# EAGLE library part C501-LP (library micro-siemens)
MICROPROCESSOR/PERIPHERAL DEVICE
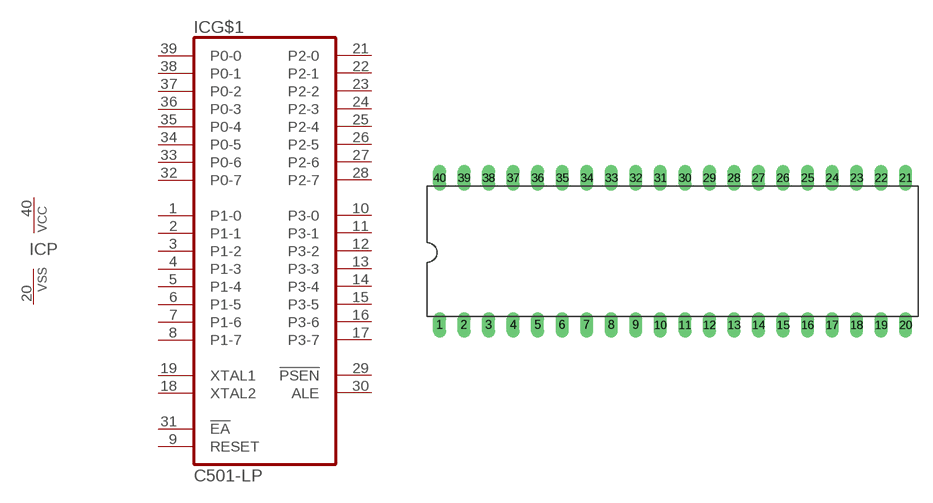
[diagram p70: symbol with the pads of DIL40; footprint DIL40]

Designator prefix IC; gates G$1=C501-LP P=VCCVSS

## C501-LP (OC_FARNELL: unknown; OC_NEWARK: unknown)  [DIL40]
1  G$1:P1-0
2  G$1:P1-1
3  G$1:P1-2
4  G$1:P1-3
5  G$1:P1-4
6  G$1:P1-5
7  G$1:P1-6
8  G$1:P1-7
9  G$1:RESET  in
10  G$1:P3-0
11  G$1:P3-1
12  G$1:P3-2
13  G$1:P3-3
14  G$1:P3-4
15  G$1:P3-5
16  G$1:P3-6
17  G$1:P3-7
18  G$1:XTAL2  pas
19  G$1:XTAL1  pas
20  P:VSS  pwr
21  G$1:P2-0
22  G$1:P2-1
23  G$1:P2-2
24  G$1:P2-3
25  G$1:P2-4
26  G$1:P2-5
27  G$1:P2-6
28  G$1:P2-7
29  G$1:!PSEN  out
30  G$1:ALE  out
31  G$1:!EA  in
32  G$1:P0-7
33  G$1:P0-6
34  G$1:P0-5
35  G$1:P0-4
36  G$1:P0-3
37  G$1:P0-2
38  G$1:P0-1
39  G$1:P0-0
40  P:VCC  pwr

## Footprint DIL40 (pad centres in mm)
Dual In Line Package
drill 0.813 long: 1 -24.13,-7.62; 2 -21.59,-7.62; 3 -19.05,-7.62; 4 -16.51,-7.62; 5 -13.97,-7.62; 6 -11.43,-7.62; 7 -8.89,-7.62; 8 -6.35,-7.62; 9 -3.81,-7.62; 10 -1.27,-7.62; 11 1.27,-7.62; 12 3.81,-7.62; 13 6.35,-7.62; 14 8.89,-7.62; 15 11.43,-7.62; 16 13.97,-7.62; 17 16.51,-7.62; 18 19.05,-7.62; 19 21.59,-7.62; 20 24.13,-7.62; 21 24.13,7.62; 22 21.59,7.62; 23 19.05,7.62; 24 16.51,7.62; 25 13.97,7.62; 26 11.43,7.62; 27 8.89,7.62; 28 6.35,7.62; 29 3.81,7.62; 30 1.27,7.62; 31 -1.27,7.62; 32 -3.81,7.62; 33 -6.35,7.62; 34 -8.89,7.62; 35 -11.43,7.62; 36 -13.97,7.62; 37 -16.51,7.62; 38 -19.05,7.62; 39 -21.59,7.62; 40 -24.13,7.62